# Altium footprint library IntegratedCircuit.PcbLib: 22 footprints (part 1 of 2)
Each footprint in its own frame and in the unit in brackets; x right, y up, seen from the top. Pads: shape width x height; smd on the part's side, far side on the other; paste and mask are expansions set on the pad; w line width, h text height; cw(c..) or ccw(c..) is an arc to the next point about the centre after c.
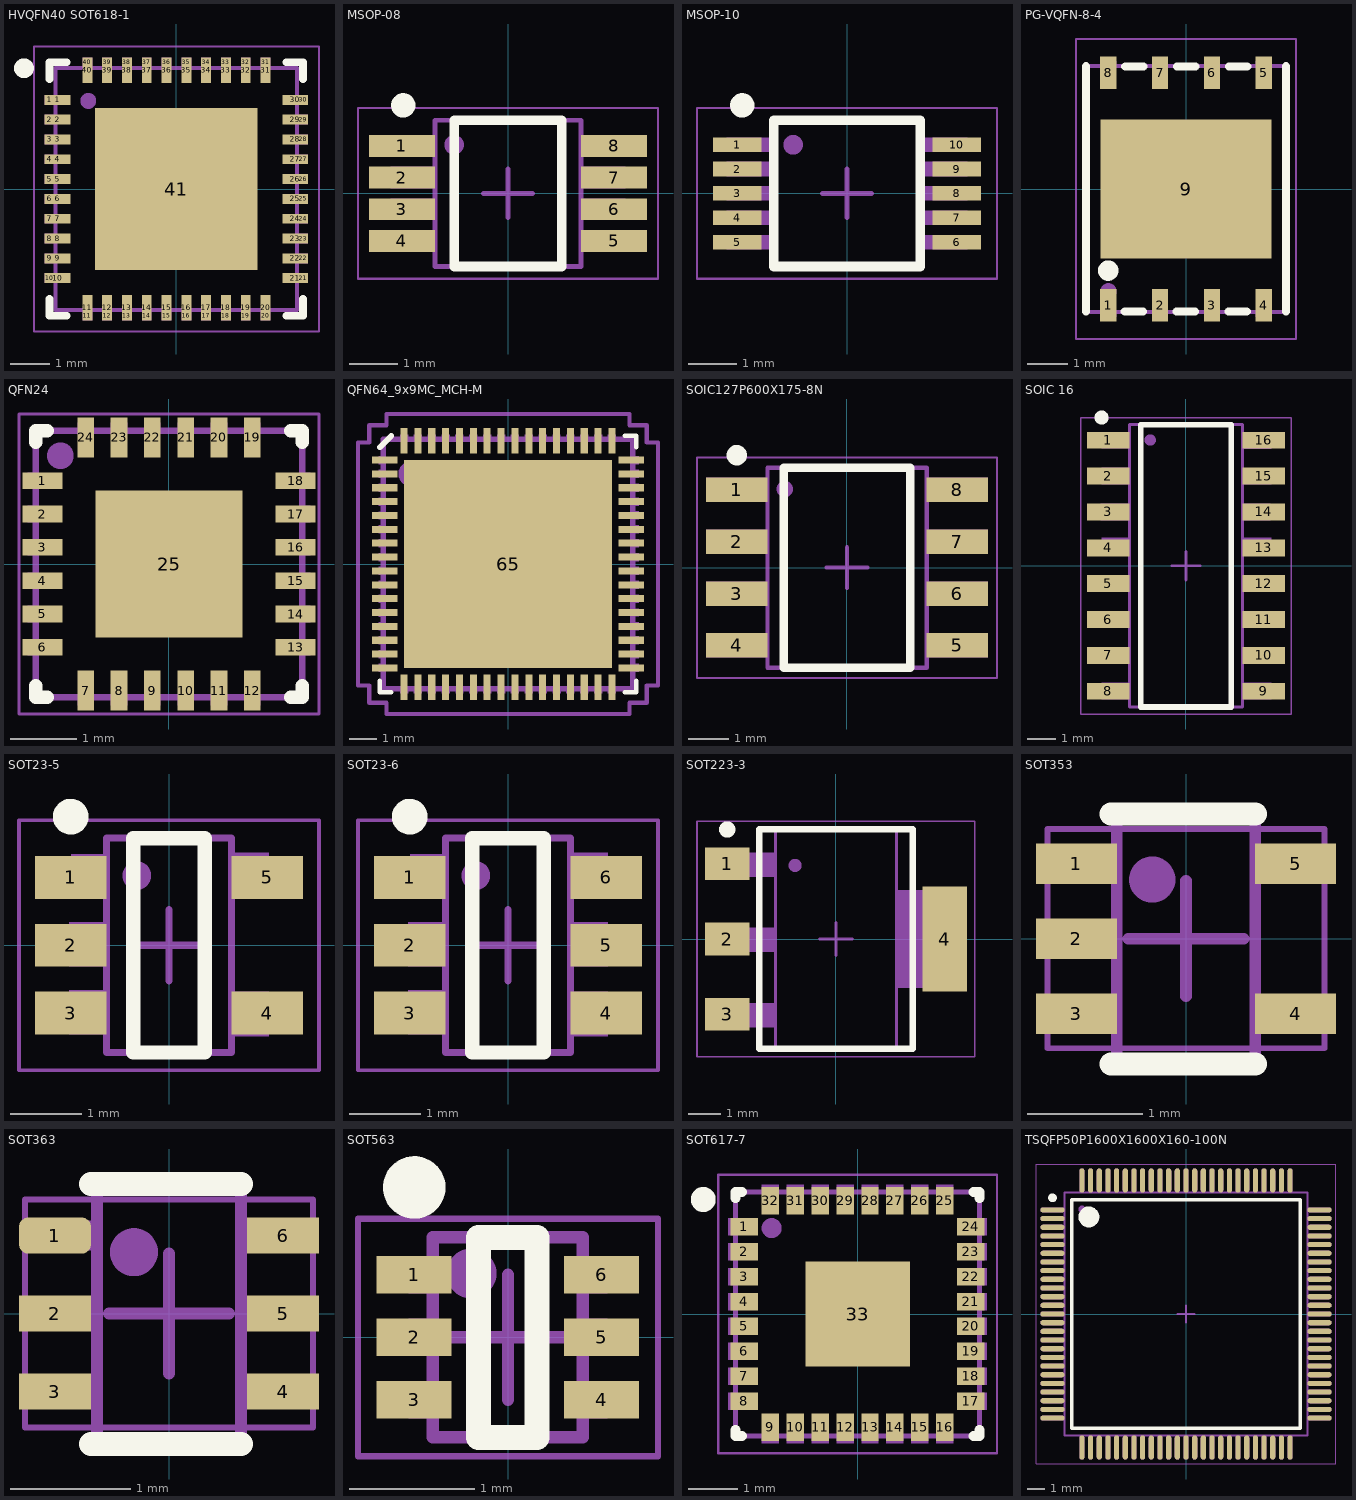
[diagram p0: the footprints below, top view; thin cyan lines are the x and y axes]

## HVQFN40 SOT618-1 [mm] "QFN, 40-Leads, Body 6.00x6.00mm, Pitch 0.50mm, Thermal Pad 4.10x4.10mm, IPC Medium Density"
height 1
pads (81):
  rect 0.25x0.25 on Mech13: 1(-3.2,2.25) 2(-3.2,1.75) 3(-3.2,1.25) 4(-3.2,0.75) 5(-3.2,0.25) 6(-3.2,-0.25) 7(-3.2,-0.75) 8(-3.2,-1.25) 9(-3.2,-1.75) 10(-3.2,-2.25) 11(-2.25,-3.2) 12(-1.75,-3.2) 13(-1.25,-3.2) 14(-0.75,-3.2) 15(-0.25,-3.2) 16(0.25,-3.2) 17(0.75,-3.2) 18(1.25,-3.2) 19(1.75,-3.2) 20(2.25,-3.2) 21(3.2,-2.25) 22(3.2,-1.75) 23(3.2,-1.25) 24(3.2,-0.75) 25(3.2,-0.25) 26(3.2,0.25) 27(3.2,0.75) 28(3.2,1.25) 29(3.2,1.75) 30(3.2,2.25) 31(2.25,3.2) 32(1.75,3.2) 33(1.25,3.2) 34(0.75,3.2) 35(0.25,3.2) 36(-0.25,3.2) 37(-0.75,3.2) 38(-1.25,3.2) 39(-1.75,3.2) 40(-2.25,3.2)
  rect 0.65x0.25 smd: 1(-3,2.25) 2(-3,1.75) 3(-3,1.25) 4(-3,0.75) 5(-3,0.25) 6(-3,-0.25) 7(-3,-0.75) 8(-3,-1.25) 9(-3,-1.75) 10(-3,-2.25) 21(3,-2.25) 22(3,-1.75) 23(3,-1.25) 24(3,-0.75) 25(3,-0.25) 26(3,0.25) 27(3,0.75) 28(3,1.25) 29(3,1.75) 30(3,2.25)
  rect 0.25x0.65 smd: 11(-2.25,-3) 12(-1.75,-3) 13(-1.25,-3) 14(-0.75,-3) 15(-0.25,-3) 16(0.25,-3) 17(0.75,-3) 18(1.25,-3) 19(1.75,-3) 20(2.25,-3) 31(2.25,3) 32(1.75,3) 33(1.25,3) 34(0.75,3) 35(0.25,3) 36(-0.25,3) 37(-0.75,3) 38(-1.25,3) 39(-1.75,3) 40(-2.25,3)
  rect 4.1x4.1 smd: 41(0,0)
Top Overlay:
  circle w0.25: c-3.85,3.05 r0.125
  lines w0.2: -3.2,-2.775 -3.2,-3.2 -2.775,-3.2 ; -3.2,2.775 -3.2,3.2 -2.775,3.2 ; 2.775,-3.2 3.2,-3.2 3.2,-2.775 ; 2.775,3.2 3.2,3.2 3.2,2.775
Mechanical 13:
  circle w0.3: c-2.225,2.225 r0.05
  lines w0.1: -3.05,-3.05 -3.05,3.05 3.05,3.05 3.05,-3.05 -3.05,-3.05
  text ".Designator" at -3.749,-0.25 h0.75
Mechanical 15:
  lines w0.05: -3.6,-3.6 -3.6,3.6 3.6,3.6 3.6,-3.6 -3.6,-3.6
  lines w0.1: -0.5,0 0.5,0 ; 0,-0.5 0,0.5
3D body "QFN-40.STEP": height 1.06, standoff 0.01, extent -3.075,-3.075 3.075,3.075

## MSOP-08 [mm] "TSOP, 8-Leads, Body 2.95x2.95mm, Pitch 0.65mm, IPC Medium Density"
height 1.1
pads (8):
  rect 1.35x0.45 smd: 1(-2.175,0.975) 2(-2.175,0.325) 3(-2.175,-0.325) 4(-2.175,-0.975) 5(2.175,-0.975) 6(2.175,-0.325) 7(2.175,0.325) 8(2.175,0.975)
Top Overlay:
  circle w0.25: c-2.147,1.805 r0.125
  lines w0.2: -1.1,-1.5 1.1,-1.5 1.1,1.5 -1.1,1.5 -1.1,-1.5
Mechanical 13:
  circle w0.3: c-1.105,0.996 r0.05
  region: 2.405,-0.75 1.5,-0.75 1.5,-1.199 2.405,-1.199
  region: 2.405,-0.1 1.5,-0.1 1.5,-0.549 2.405,-0.549
  region: 2.405,0.55 1.5,0.55 1.5,0.101 2.405,0.101
  region: 2.405,1.2 1.5,1.2 1.5,0.751 2.405,0.751
  rectangle: -2.405,-1.2 -1.5,-0.751
  rectangle: -2.405,-0.55 -1.5,-0.101
  rectangle: -2.405,0.1 -1.5,0.549
  rectangle: -2.405,0.75 -1.5,1.199
  lines w0.1: -1.5,-1.5 1.5,-1.5 1.5,1.5 -1.5,1.5 -1.5,-1.5
  text ".Designator" at 0.25,-3.749 h0.75
Mechanical 15:
  lines w0.05: -3.075,-1.75 3.075,-1.75 3.075,1.75 -3.075,1.75 -3.075,-1.75
  lines w0.1: -0.5,0 0.5,0 ; 0,-0.5 0,0.5
3D body "TSOP65P480X110-8N.step": height 1.1, standoff 0, extent -2.4,-1.5 2.4,1.5

## MSOP-10 [mm] "TSOP, 8-Leads, Body 2.95x2.95mm, Pitch 0.65mm, IPC Medium Density"
height 1.1
pads (10):
  rect 1x0.3 smd: 1(-2.25,1) 2(-2.25,0.5) 3(-2.25,0) 4(-2.25,-0.5) 5(-2.25,-1) 6(2.25,-1) 7(2.25,-0.5) 8(2.25,0) 9(2.25,0.5) 10(2.25,1)
Top Overlay:
  circle w0.25: c-2.147,1.805 r0.125
  lines w0.2: -1.5,-1.5 1.5,-1.5 1.5,1.5 -1.5,1.5 -1.5,-1.5
Mechanical 13:
  circle w0.3: c-1.105,0.996 r0.05
  region: 2.466,-0.85 1.5,-0.85 1.5,-1.15 2.466,-1.15
  region: 2.466,-0.35 1.5,-0.35 1.5,-0.65 2.466,-0.65
  region: 2.466,0.15 1.5,0.15 1.5,-0.15 2.466,-0.15
  region: 2.466,0.65 1.5,0.65 1.5,0.35 2.466,0.35
  region: 2.466,1.15 1.5,1.15 1.5,0.85 2.466,0.85
  rectangle: -2.466,-1.15 -1.5,-0.85
  rectangle: -2.466,-0.65 -1.5,-0.35
  rectangle: -2.466,-0.15 -1.5,0.15
  rectangle: -2.466,0.35 -1.5,0.65
  rectangle: -2.466,0.85 -1.5,1.15
  lines w0.1: -1.5,-1.5 1.5,-1.5 1.5,1.5 -1.5,1.5 -1.5,-1.5
  text ".Designator" at 0.25,-3.749 h0.75
Mechanical 15:
  lines w0.05: -3.075,-1.75 3.075,-1.75 3.075,1.75 -3.075,1.75 -3.075,-1.75
  lines w0.1: -0.5,0 0.5,0 ; 0,-0.5 0,0.5
3D body "MSOP-10.step": height 1, standoff 0, extent -2.464,-1.5 2.464,1.5

## PG-VQFN-8-4 [mm] "SOIC, 8-Leads, Body 4.90x3.90mm, Pitch 1.27mm, IPC Medium Density"
height 1.75
pads (9):
  rect 0.4x0.8 smd: 1(-1.905,-2.85) 2(-0.635,-2.85) 3(0.635,-2.85) 4(1.905,-2.85) 5(1.905,2.85) 6(0.635,2.85) 7(-0.635,2.85) 8(-1.905,2.85)
  rect 4.2x3.4 smd: 9(0,-0.001)
Top Overlay:
  circle w0.25: c-1.905,-2 r0.125
  lines w0.2: -2.45,-3.002 -2.45,3.008 ; -1.5,-3 -1.05,-3 ; -1.49,3 -1.04,3 ; -0.23,-3 0.22,-3 ; -0.22,3 0.23,3 ; 1.04,-3 1.49,-3 ; 1.05,3 1.5,3 ; 2.45,-3.002 2.45,3.008
Mechanical 13:
  circle w0.3: c-1.901,-2.509 r0.05
  rectangle: -2.105,2.991 -1.707,3.139
  rectangle: -0.835,2.991 -0.437,3.139
  rectangle: 0.435,2.991 0.833,3.139
  rectangle: 1.705,2.991 2.103,3.139
  region: 2.104,-2.991 1.706,-2.991 1.706,-3.139 2.104,-3.139
  region: 0.834,-2.991 0.436,-2.991 0.436,-3.139 0.834,-3.139
  region: -0.436,-2.991 -0.834,-2.991 -0.834,-3.139 -0.436,-3.139
  region: -1.706,-2.991 -2.104,-2.991 -2.104,-3.139 -1.706,-3.139
  lines w0.1: -2.449,-3.01 -2.449,3.009 2.451,3.009 2.451,-3.01 -2.449,-3.01
  text ".Designator" at -3.749,-0.251 h0.75
Mechanical 15:
  lines w0.05: -2.7,-3.675 -2.7,3.675 2.7,3.675 2.7,-3.675 -2.7,-3.675
  lines w0.1: -0.5,0 0.5,0 ; 0,-0.5 0,0.5
3D body "esim_qfn8-5x6 v0.step": height 0.81, standoff 0, extent -2.5,-3.01 2.5,3.01

## QFN24 [mm]
height 1
pads (49):
  rect 0.6x0.25 smd: 1(-1.9,1.25) 2(-1.9,0.75) 3(-1.9,0.25) 4(-1.9,-0.25) 5(-1.9,-0.75) 6(-1.9,-1.25) 13(1.9,-1.25) 14(1.9,-0.75) 15(1.9,-0.25) 16(1.9,0.25) 17(1.9,0.75) 18(1.9,1.25)
  rect 0.25x0.6 smd: 7(-1.25,-1.9) 8(-0.75,-1.9) 9(-0.25,-1.9) 10(0.25,-1.9) 11(0.75,-1.9) 12(1.25,-1.9) 19(1.25,1.9) 20(0.75,1.9) 21(0.25,1.9) 22(-0.25,1.9) 23(-0.75,1.9) 24(-1.25,1.9)
  rect 2.2x2.2 smd: 25(0,0)
  rect 0.15x0.25 on Mech13: ""(-2.05,-1.25) ""(-2.05,-0.75) ""(-2.05,-0.25) ""(-2.05,0.25) ""(-2.05,0.75) ""(-2.05,1.25) ""(2.05,-1.25) ""(2.05,-0.75) ""(2.05,-0.25) ""(2.05,0.25) ""(2.05,0.75) ""(2.05,1.25)
  rect 0.25x0.15 on Mech13: ""(-1.25,2.05) ""(-1.25,-2.05) ""(-0.75,-2.05) ""(-0.75,2.05) ""(-0.25,2.05) ""(-0.25,-2.05) ""(0.25,2.05) ""(0.25,-2.05) ""(0.75,-2.05) ""(0.75,2.05) ""(1.25,2.05) ""(1.25,-2.05)
Top Overlay:
  lines w0.2: -2,-1.825 -2,-2 -1.825,-2 ; -2,1.825 -2,2 -1.825,2 ; 1.825,-2 2,-2 2,-1.825 ; 1.825,2 2,2 2,1.825
Mechanical 13:
  circle w0.3: c-1.63,1.624 r0.05
  lines w0.1: -2,-2 2,-2 2,2 -2,2 -2,-2
  text ".Designator" at -3.749,-0.25 h0.75
Mechanical 15:
  lines w0.05: -2.25,-2.25 2.25,-2.25 2.25,2.25 -2.25,2.25 -2.25,-2.25
  lines w0.1: -0.5,0 0.5,0 ; 0,-0.5 0,0.5
3D body "QFN24.step": height 0.9, standoff 0, extent -2.005,-2.005 2.005,2.005

## QFN64_9x9MC_MCH-M [mil]
pads (65):
  rect 36x10 smd paste+0 mask+0: 1(-175,147.64) 2(-175,127.95) 3(-175,108.27) 4(-175,88.58) 5(-175,68.9) 6(-175,49.21) 7(-175,29.53) 8(-175,9.84) 9(-175,-9.84) 10(-175,-29.53) 11(-175,-49.21) 12(-175,-68.9) 13(-175,-88.58) 14(-175,-108.27) 15(-175,-127.95) 16(-175,-147.64) 33(175,-147.64) 34(175,-127.95) 35(175,-108.27) 36(175,-88.58) 37(175,-68.9) 38(175,-49.21) 39(175,-29.53) 40(175,-9.84) 41(175,9.84) 42(175,29.53) 43(175,49.21) 44(175,68.9) 45(175,88.58) 46(175,108.27) 47(175,127.95) 48(175,147.64)
  rect 10x36 smd paste+0 mask+0: 17(-147.64,-175) 18(-127.95,-175) 19(-108.27,-175) 20(-88.58,-175) 21(-68.9,-175) 22(-49.21,-175) 23(-29.53,-175) 24(-9.84,-175) 25(9.84,-175) 26(29.53,-175) 27(49.21,-175) 28(68.9,-175) 29(88.58,-175) 30(108.27,-175) 31(127.95,-175) 32(147.64,-175) 49(147.64,175) 50(127.95,175) 51(108.27,175) 52(88.58,175) 53(68.9,175) 54(49.21,175) 55(29.53,175) 56(9.84,175) 57(-9.84,175) 58(-29.53,175) 59(-49.21,175) 60(-68.9,175) 61(-88.58,175) 62(-108.27,175) 63(-127.95,175) 64(-147.64,175)
  rect 295x295 smd paste-147 mask+0: 65(0,0)
Top Overlay:
  lines w6: -182,-165.74 -182,-182 -165.74,-182 ; 165.74,-182 182,-182 182,-165.74 ; 165.74,182 182,182 182,165.74
  lines w7.87: -182,165.74 -165.74,182
Top Paste:
  region: 143.56,-92.44 92.44,-92.44 92.44,-143.56 143.56,-143.56
  region: 143.56,-33.44 92.44,-33.44 92.44,-84.56 143.56,-84.56
  region: 143.56,25.56 92.44,25.56 92.44,-25.56 143.56,-25.56
  region: 143.56,84.56 92.44,84.56 92.44,33.44 143.56,33.44
  region: 143.56,143.56 92.44,143.56 92.44,92.44 143.56,92.44
  region: 84.56,-92.44 33.44,-92.44 33.44,-143.56 84.56,-143.56
  region: 84.56,-33.44 33.44,-33.44 33.44,-84.56 84.56,-84.56
  region: 84.56,25.56 33.44,25.56 33.44,-25.56 84.56,-25.56
  region: 84.56,84.56 33.44,84.56 33.44,33.44 84.56,33.44
  region: 84.56,143.56 33.44,143.56 33.44,92.44 84.56,92.44
  region: 25.56,-92.44 -25.56,-92.44 -25.56,-143.56 25.56,-143.56
  region: 25.56,-33.44 -25.56,-33.44 -25.56,-84.56 25.56,-84.56
  region: 25.56,25.56 -25.56,25.56 -25.56,-25.56 25.56,-25.56
  region: 25.56,84.56 -25.56,84.56 -25.56,33.44 25.56,33.44
  region: 25.56,143.56 -25.56,143.56 -25.56,92.44 25.56,92.44
  region: -33.44,-92.44 -84.56,-92.44 -84.56,-143.56 -33.44,-143.56
  region: -33.44,-33.44 -84.56,-33.44 -84.56,-84.56 -33.44,-84.56
  region: -33.44,25.56 -84.56,25.56 -84.56,-25.56 -33.44,-25.56
  region: -33.44,84.56 -84.56,84.56 -84.56,33.44 -33.44,33.44
  region: -33.44,143.56 -84.56,143.56 -84.56,92.44 -33.44,92.44
  region: -92.44,-92.44 -143.56,-92.44 -143.56,-143.56 -92.44,-143.56
  region: -92.44,-33.44 -143.56,-33.44 -143.56,-84.56 -92.44,-84.56
  region: -92.44,25.56 -143.56,25.56 -143.56,-25.56 -92.44,-25.56
  region: -92.44,84.56 -143.56,84.56 -143.56,33.44 -92.44,33.44
  region: -92.44,143.56 -143.56,143.56 -143.56,92.44 -92.44,92.44
Mechanical 13:
  drawing of 201 lines, arcs and shapes, not listed
  text ".Designator" at -196.79,-13.12 h39.37
Mechanical 15:
  lines w6: -213,-172.64 -213,172.64 -197,172.64 -197,197 -172.64,197 -172.64,213 172.64,213 172.64,197 197,197 197,172.64 213,172.64 213,-172.64 197,-172.64 197,-197 172.64,-197 172.64,-213 -172.64,-213 -172.64,-197 -197,-197 -197,-172.64 -213,-172.64
3D body "QFN64_9x9MC_MCH.step": height 39.09, standoff 0, extent -177.01,-177.01 177.01,177.01

## SOIC127P600X175-8N [mm] "SOIC, 8-Leads, Body 4.90x3.90mm, Pitch 1.27mm, IPC Medium Density"
height 1.75
pads (16):
  rect 1.5x0.6 smd: 1(-2.7,1.905) 2(-2.7,0.635) 3(-2.7,-0.635) 4(-2.7,-1.905) 5(2.7,-1.905) 6(2.7,-0.635) 7(2.7,0.635) 8(2.7,1.905)
  rect 1.5x0.6 on Mech13: ""(-2.7,-1.905) ""(-2.7,-0.635) ""(-2.7,0.635) ""(-2.7,1.905) ""(2.7,-1.905) ""(2.7,-0.635) ""(2.7,0.635) ""(2.7,1.905)
Top Overlay:
  circle w0.25: c-2.7,2.755 r0.125
  lines w0.2: -1.55,-2.45 -1.55,2.45 1.55,2.45 1.55,-2.45 -1.55,-2.45
Mechanical 13:
  circle w0.3: c-1.525,1.925 r0.05
  lines w0.1: -1.947,-2.451 1.953,-2.451 1.953,2.449 -1.947,2.449 -1.947,-2.451
  text ".Designator" at 0.25,-3.749 h0.75
Mechanical 15:
  lines w0.05: -3.675,-2.7 -3.675,2.7 3.675,2.7 3.675,-2.7 -3.675,-2.7
  lines w0.1: -0.5,0 0.5,0 ; 0,-0.5 0,0.5
3D body "SOIC127P600X175-8N.step": height 1.75, standoff 0, extent -3,-2.45 3,2.45

## SOIC 16 [mm] "SOIC, 16-Leads, Body 9.90x3.90mm, Pitch 1.27mm, IPC Medium Density"
height 1.75
pads (16):
  rect 1.5x0.6 smd: 1(-2.75,4.445) 2(-2.75,3.175) 3(-2.75,1.905) 4(-2.75,0.635) 5(-2.75,-0.635) 6(-2.75,-1.905) 7(-2.75,-3.175) 8(-2.75,-4.445) 9(2.75,-4.445) 10(2.75,-3.175) 11(2.75,-1.905) 12(2.75,-0.635) 13(2.75,0.635) 14(2.75,1.905) 15(2.75,3.175) 16(2.75,4.445)
Top Overlay:
  circle w0.25: c-2.99,5.25 r0.125
  lines w0.2: -1.6,-5 -1.6,5 1.6,5 1.6,-5 -1.6,-5
Mechanical 13:
  circle w0.3: c-1.266,4.453 r0.05
  rectangle: -2.996,4.145 -2,4.745
  rectangle: -2.996,2.873 -2,3.473
  rectangle: -3.021,1.609 -2.026,2.209
  rectangle: -3.031,-0.931 -2.035,-0.331
  rectangle: -2.996,0.399 -2,0.999
  rectangle: -3.009,-2.201 -2.013,-1.601
  rectangle: -2.996,-3.475 -2,-2.875
  rectangle: -2.996,-4.735 -2,-4.135
  rectangle: 2.031,4.142 3.027,4.742
  rectangle: 2.031,2.869 3.027,3.469
  rectangle: 2.005,1.606 3.001,2.206
  rectangle: 1.996,-0.934 2.991,-0.334
  rectangle: 2.031,0.396 3.027,0.996
  rectangle: 2.018,-2.204 3.014,-1.604
  rectangle: 2.031,-3.478 3.027,-2.878
  rectangle: 2.031,-4.738 3.027,-4.138
  lines w0.1: -2,-5 -2,5 2,5 2,-5 -2,-5
  text ".Designator" at 0.178,-2.563 h0.5
Mechanical 15:
  lines w0.05: -3.725,-5.25 -3.725,5.25 3.725,5.25 3.725,-5.25 -3.725,-5.25
  lines w0.1: -0.5,0 0.5,0 ; 0,-0.5 0,0.5
3D body "SO16-viper26hd.step": height 1.7, standoff 0, extent -3,-5.1 3,5.1

## SOT23-5 [mm] "SOT23, 6-Leads, Body 2.73x2.80mm, Pitch 0.95mm, IPC Medium Density"
height 1.45
pads (5):
  rect 1x0.6 smd: 1(-1.375,0.95) 2(-1.375,0) 3(-1.375,-0.95) 4(1.375,-0.95) 5(1.375,0.95)
Top Overlay:
  circle w0.25: c-1.375,1.8 r0.125
  lines w0.2: -0.5,-1.5 0.5,-1.5 0.5,1.5 -0.5,1.5 -0.5,-1.5
Mechanical 13:
  circle w0.3: c-0.45,0.975 r0.05
  rectangle: -1.375,0.65 -0.875,1.275
  rectangle: -1.4,-0.3 -0.9,0.325
  rectangle: -1.4,-1.25 -0.9,-0.625
  rectangle: 0.9,0.675 1.4,1.3
  rectangle: 0.9,-1.275 1.4,-0.65
  lines w0.1: -0.875,-1.5 -0.875,1.5 0.875,1.5 0.875,-1.5 -0.875,-1.5
  text ".Designator" at 0.217,-3.249 h0.65
Mechanical 15:
  lines w0.05: -2.1,-1.75 -2.1,1.75 2.1,1.75 2.1,-1.75 -2.1,-1.75
  lines w0.1: -0.5,0 0.5,0 ; 0,-0.5 0,0.5
3D body "ap2112k-3_3trg1.stp": height 1.11, standoff -0.04, extent -1.4,-1.5 1.4,1.5

## SOT23-6 [mm] "SOT23, 6-Leads, Body 2.73x2.80mm, Pitch 0.95mm, IPC Medium Density"
height 1.45
pads (6):
  rect 1x0.6 smd: 1(-1.375,0.95) 2(-1.375,0) 3(-1.375,-0.95) 4(1.375,-0.95) 5(1.375,0) 6(1.375,0.95)
Top Overlay:
  circle w0.25: c-1.375,1.8 r0.125
  lines w0.2: -0.5,-1.5 0.5,-1.5 0.5,1.5 -0.5,1.5 -0.5,-1.5
Mechanical 13:
  circle w0.3: c-0.45,0.975 r0.05
  rectangle: -1.375,0.65 -0.875,1.275
  rectangle: -1.4,-0.3 -0.9,0.325
  rectangle: -1.4,-1.25 -0.9,-0.625
  rectangle: 0.9,0.675 1.4,1.3
  rectangle: 0.9,-0.3 1.4,0.325
  rectangle: 0.9,-1.275 1.4,-0.65
  lines w0.1: -0.875,-1.5 -0.875,1.5 0.875,1.5 0.875,-1.5 -0.875,-1.5
  text ".Designator" at 0.217,-3.249 h0.65
Mechanical 15:
  lines w0.05: -2.1,-1.75 -2.1,1.75 2.1,1.75 2.1,-1.75 -2.1,-1.75
  lines w0.1: -0.5,0 0.5,0 ; 0,-0.5 0,0.5
3D body "SOT23-6-2.step": height 1.45, standoff 0, extent -1.4,-1.45 1.4,1.45

## SOT223-3 [mm] "SOT223, 4-Leads, Body 6.50x7.00mm (avg), Pitch 2.30mm, IPC Medium Density"
height 1.8
pads (4):
  rect 1.35x1 smd: 1(-3.325,2.3) 2(-3.325,0) 3(-3.325,-2.3)
  rect 1.35x3.2 smd: 4(3.325,0)
Top Overlay:
  circle w0.25: c-3.325,3.35 r0.125
  lines w0.2: -2.35,-3.35 2.35,-3.35 2.35,3.35 -2.35,3.35 -2.35,-3.35
Mechanical 13:
  circle w0.3: c-1.25,2.25 r0.05
  rectangle: -3.5,-2.7 -1.85,-1.95
  rectangle: -3.5,-0.4 -1.85,0.35
  rectangle: -3.5,1.9 -1.85,2.65
  region: 3.5,1.5 1.849,1.5 1.849,-1.5 3.5,-1.5
  lines w0.1: -1.85,-3.35 1.85,-3.35 1.85,3.35 -1.85,3.35 -1.85,-3.35
  text ".Designator" at 0.217,-3.279 h0.65
Mechanical 15:
  lines w0.05: -4.25,-3.6 4.25,-3.6 4.25,3.6 -4.25,3.6 -4.25,-3.6
  lines w0.1: -0.5,0 0.5,0 ; 0,-0.5 0,0.5
3D body "SOT-223.stp": height 1.61, standoff -0.04, extent -3.5,-3.25 3.5,3.25

## SOT353 [mm] "SOTFL, 6-Leads, Body 1.55x1.58mm, Pitch 0.50mm, IPC Medium Density"
height 0.6
pads (5):
  rect 0.7x0.35 smd: 1(-0.95,0.65) 2(-0.95,0) 3(-0.95,-0.65) 4(0.95,-0.65) 5(0.95,0.65)
Top Overlay:
  lines w0.2: -0.65,-1.086 0.6,-1.086 ; -0.65,1.079 0.6,1.079
Mechanical 13:
  circle w0.3: c-0.292,0.511 r0.05
  region: 1.05,-0.525 0.6,-0.525 0.6,-0.775 1.05,-0.775
  region: 1.05,0.775 0.6,0.775 0.6,0.525 1.05,0.525
  rectangle: -1.05,0.525 -0.6,0.775
  rectangle: -1.05,-0.125 -0.6,0.125
  rectangle: -1.05,-0.775 -0.6,-0.525
  lines w0.1: -0.6,-1.086 -0.6,1.079 0.6,1.079 0.6,-1.086 -0.6,-1.086
  text ".Designator" at 0.333,-1.999 h0.4
Mechanical 15:
  lines w0.05: -1.2,-0.95 1.2,-0.95 1.2,0.95 -1.2,0.95 -1.2,-0.95
  lines w0.1: -0.5,0 0.5,0 ; 0,-0.5 0,0.5
3D body "SOT353.step": height 1.1, standoff 0, extent -1.2,-1.1 1.2,1.1

## SOT363 [mm] "SOTFL, 6-Leads, Body 1.55x1.58mm, Pitch 0.50mm, IPC Medium Density"
height 0.6
pads (6):
  rrect50% 0.6x0.3 smd: 1(-0.95,0.65)
  rect 0.6x0.3 smd: 2(-0.95,0) 3(-0.95,-0.65) 4(0.95,-0.65) 5(0.95,0) 6(0.95,0.65)
Top Overlay:
  lines w0.2: -0.65,-1.086 0.6,-1.086 ; -0.65,1.079 0.6,1.079
Mechanical 13:
  circle w0.3: c-0.292,0.511 r0.05
  region: 1.05,-0.525 0.6,-0.525 0.6,-0.775 1.05,-0.775
  region: 1.05,0.125 0.6,0.125 0.6,-0.125 1.05,-0.125
  region: 1.05,0.775 0.6,0.775 0.6,0.525 1.05,0.525
  rectangle: -1.05,0.525 -0.6,0.775
  rectangle: -1.05,-0.125 -0.6,0.125
  rectangle: -1.05,-0.775 -0.6,-0.525
  lines w0.1: -0.6,-1.086 -0.6,1.079 0.6,1.079 0.6,-1.086 -0.6,-1.086
  text ".Designator" at 0.333,-1.999 h0.4
Mechanical 15:
  lines w0.05: -1.2,-0.95 1.2,-0.95 1.2,0.95 -1.2,0.95 -1.2,-0.95
  lines w0.1: -0.5,0 0.5,0 ; 0,-0.5 0,0.5
3D body "SOT363.stp": height 1.1, standoff 0.01, extent -1.05,-1.075 1.05,1.075

## SOT563 [mm] "SOTFL, 6-Leads, Body 1.55x1.58mm, Pitch 0.50mm, IPC Medium Density"
height 0.6
pads (6):
  rect 0.6x0.3 smd: 1(-0.75,0.5) 2(-0.75,0) 3(-0.75,-0.5) 4(0.75,-0.5) 5(0.75,0) 6(0.75,0.5)
Top Overlay:
  circle w0.25: c-0.75,1.2 r0.125
  lines w0.2: -0.235,-0.8 -0.235,0.8 0.23,0.8 0.23,-0.8 -0.235,-0.8
Mechanical 13:
  circle w0.3: c-0.292,0.511 r0.05
  rectangle: -0.796,0.35 -0.6,0.65
  rectangle: -0.796,-0.15 -0.6,0.15
  rectangle: -0.796,-0.65 -0.6,-0.35
  region: 0.796,0.65 0.6,0.65 0.6,0.35 0.796,0.35
  region: 0.796,0.15 0.6,0.15 0.6,-0.15 0.796,-0.15
  region: 0.796,-0.35 0.6,-0.35 0.6,-0.65 0.796,-0.65
  lines w0.1: -0.6,-0.8 0.6,-0.8 0.6,0.8 -0.6,0.8 -0.6,-0.8
  text ".Designator" at 0.333,-1.999 h0.4
Mechanical 15:
  lines w0.05: -1.2,-0.95 1.2,-0.95 1.2,0.95 -1.2,0.95 -1.2,-0.95
  lines w0.1: -0.5,0 0.5,0 ; 0,-0.5 0,0.5
3D body "SOTFL50P158X60-6N.step": height 0.6, standoff 0, extent -0.787,-0.798 0.787,0.798

## SOT617-7 [mm] "PQFN, 32-Leads, Body 5.00x5.00mm, Pitch 0.50mm, Thermal Pad 2.10x2.10mm, IPC Medium Density"
height 1
pads (65):
  rect 0.55x0.35 smd: 1(-2.275,1.75) 2(-2.275,1.25) 3(-2.275,0.75) 4(-2.275,0.25) 5(-2.275,-0.25) 6(-2.275,-0.75) 7(-2.275,-1.25) 8(-2.275,-1.75) 17(2.275,-1.75) 18(2.275,-1.25) 19(2.275,-0.75) 20(2.275,-0.25) 21(2.275,0.25) 22(2.275,0.75) 23(2.275,1.25) 24(2.275,1.75)
  rect 0.35x0.55 smd: 9(-1.75,-2.275) 10(-1.25,-2.275) 11(-0.75,-2.275) 12(-0.25,-2.275) 13(0.25,-2.275) 14(0.75,-2.275) 15(1.25,-2.275) 16(1.75,-2.275) 25(1.75,2.275) 26(1.25,2.275) 27(0.75,2.275) 28(0.25,2.275) 29(-0.25,2.275) 30(-0.75,2.275) 31(-1.25,2.275) 32(-1.75,2.275)
  rect 2.1x2.1 smd: 33(0,0)
  rect 0.2x0.35 on Mech13: ""(-2.5,-1.75) ""(-2.5,-1.25) ""(-2.5,-0.75) ""(-2.5,-0.25) ""(-2.5,0.25) ""(-2.5,0.75) ""(-2.5,1.25) ""(-2.5,1.75) ""(2.5,-1.75) ""(2.5,-1.25) ""(2.5,-0.75) ""(2.5,-0.25) ""(2.5,0.25) ""(2.5,0.75) ""(2.5,1.25) ""(2.5,1.75)
  rect 0.35x0.2 on Mech13: ""(-1.75,-2.5) ""(-1.75,2.5) ""(-1.25,-2.5) ""(-1.25,2.5) ""(-0.75,-2.5) ""(-0.75,2.5) ""(-0.25,-2.5) ""(-0.25,2.5) ""(0.25,-2.5) ""(0.25,2.5) ""(0.75,-2.5) ""(0.75,2.5) ""(1.25,-2.5) ""(1.25,2.5) ""(1.75,-2.5) ""(1.75,2.5)
Top Overlay:
  circle w0.25: c-3.1,2.3 r0.125
  lines w0.2: -2.45,-2.325 -2.45,-2.45 -2.325,-2.45 ; -2.45,2.325 -2.45,2.45 -2.325,2.45 ; 2.325,-2.45 2.45,-2.45 2.45,-2.325 ; 2.325,2.45 2.45,2.45 2.45,2.325
Mechanical 13:
  circle w0.3: c-1.725,1.725 r0.05
  lines w0.1: -2.45,-2.45 2.45,-2.45 2.45,2.45 -2.45,2.45 -2.45,-2.45
  text ".Designator" at -3.749,-0.25 h0.75
Mechanical 15:
  lines w0.05: -2.8,-2.8 2.8,-2.8 2.8,2.8 -2.8,2.8 -2.8,-2.8
  lines w0.1: -0.5,0 0.5,0 ; 0,-0.5 0,0.5
3D body "PQFN50P500X500X100_HS-33N.step": height 1, standoff 0, extent -2.45,-2.45 2.45,2.45

## TSQFP50P1600X1600X160-100N [mm] "TSQFP, 100-Leads, Body 14.00x14.00mm, Pitch 0.50mm, IPC Medium Density"
height 1.6
pads (200):
  oval 1.4x0.3 smd: 1(-7.7,6) 2(-7.7,5.5) 3(-7.7,5) 4(-7.7,4.5) 5(-7.7,4) 6(-7.7,3.5) 7(-7.7,3) 8(-7.7,2.5) 9(-7.7,2) 10(-7.7,1.5) 11(-7.7,1) 12(-7.7,0.5) 13(-7.7,0) 14(-7.7,-0.5) 15(-7.7,-1) 16(-7.7,-1.5) 17(-7.7,-2) 18(-7.7,-2.5) 19(-7.7,-3) 20(-7.7,-3.5) 21(-7.7,-4) 22(-7.7,-4.5) 23(-7.7,-5) 24(-7.7,-5.5) 25(-7.7,-6) 51(7.7,-6) 52(7.7,-5.5) 53(7.7,-5) 54(7.7,-4.5) 55(7.7,-4) 56(7.7,-3.5) 57(7.7,-3) 58(7.7,-2.5) 59(7.7,-2) 60(7.7,-1.5) 61(7.7,-1) 62(7.7,-0.5) 63(7.7,0) 64(7.7,0.5) 65(7.7,1) 66(7.7,1.5) 67(7.7,2) 68(7.7,2.5) 69(7.7,3) 70(7.7,3.5) 71(7.7,4) 72(7.7,4.5) 73(7.7,5) 74(7.7,5.5) 75(7.7,6)
  oval 0.3x1.4 smd: 26(-6,-7.7) 27(-5.5,-7.7) 28(-5,-7.7) 29(-4.5,-7.7) 30(-4,-7.7) 31(-3.5,-7.7) 32(-3,-7.7) 33(-2.5,-7.7) 34(-2,-7.7) 35(-1.5,-7.7) 36(-1,-7.7) 37(-0.5,-7.7) 38(0,-7.7) 39(0.5,-7.7) 40(1,-7.7) 41(1.5,-7.7) 42(2,-7.7) 43(2.5,-7.7) 44(3,-7.7) 45(3.5,-7.7) 46(4,-7.7) 47(4.5,-7.7) 48(5,-7.7) 49(5.5,-7.7) 50(6,-7.7) 76(6,7.7) 77(5.5,7.7) 78(5,7.7) 79(4.5,7.7) 80(4,7.7) 81(3.5,7.7) 82(3,7.7) 83(2.5,7.7) 84(2,7.7) 85(1.5,7.7) 86(1,7.7) 87(0.5,7.7) 88(0,7.7) 89(-0.5,7.7) 90(-1,7.7) 91(-1.5,7.7) 92(-2,7.7) 93(-2.5,7.7) 94(-3,7.7) 95(-3.5,7.7) 96(-4,7.7) 97(-4.5,7.7) 98(-5,7.7) 99(-5.5,7.7) 100(-6,7.7)
  oval 1.4x0.3 on Mech13: ""(-7.7,-6) ""(-7.7,-5.5) ""(-7.7,-5) ""(-7.7,-4.5) ""(-7.7,-4) ""(-7.7,-3.5) ""(-7.7,-3) ""(-7.7,-2.5) ""(-7.7,-2) ""(-7.7,-1.5) ""(-7.7,-1) ""(-7.7,-0.5) ""(-7.7,0) ""(-7.7,0.5) ""(-7.7,1) ""(-7.7,1.5) ""(-7.7,2) ""(-7.7,2.5) ""(-7.7,3) ""(-7.7,3.5) ""(-7.7,4) ""(-7.7,4.5) ""(-7.7,5) ""(-7.7,5.5) ""(-7.7,6) ""(7.7,-6) ""(7.7,-5.5) ""(7.7,-5) ""(7.7,-4.5) ""(7.7,-4) ""(7.7,-3.5) ""(7.7,-3) ""(7.7,-2.5) ""(7.7,-2) ""(7.7,-1.5) ""(7.7,-1) ""(7.7,-0.5) ""(7.7,0) ""(7.7,0.5) ""(7.7,1) ""(7.7,1.5) ""(7.7,2) ""(7.7,2.5) ""(7.7,3) ""(7.7,3.5) ""(7.7,4) ""(7.7,4.5) ""(7.7,5) ""(7.7,5.5) ""(7.7,6)
  oval 0.3x1.4 on Mech13: ""(-6,-7.7) ""(-6,7.7) ""(-5.5,-7.7) ""(-5.5,7.7) ""(-5,-7.7) ""(-5,7.7) ""(-4.5,-7.7) ""(-4.5,7.7) ""(-4,-7.7) ""(-4,7.7) ""(-3.5,-7.7) ""(-3.5,7.7) ""(-3,-7.7) ""(-3,7.7) ""(-2.5,-7.7) ""(-2.5,7.7) ""(-2,-7.7) ""(-2,7.7) ""(-1.5,-7.7) ""(-1.5,7.7) ""(-1,-7.7) ""(-1,7.7) ""(-0.5,-7.7) ""(-0.5,7.7) ""(0,-7.7) ""(0,7.7) ""(0.5,-7.7) ""(0.5,7.7) ""(1,-7.7) ""(1,7.7) ""(1.5,-7.7) ""(1.5,7.7) ""(2,-7.7) ""(2,7.7) ""(2.5,-7.7) ""(2.5,7.7) ""(3,-7.7) ""(3,7.7) ""(3.5,-7.7) ""(3.5,7.7) ""(4,-7.7) ""(4,7.7) ""(4.5,-7.7) ""(4.5,7.7) ""(5,-7.7) ""(5,7.7) ""(5.5,-7.7) ""(5.5,7.7) ""(6,-7.7) ""(6,7.7)
Top Overlay:
  circle w0.6: c-5.6,5.6 r0.3
  circle w0.25: c-7.7,6.7 r0.125
  lines w0.2: -6.6,-6.6 6.6,-6.6 6.6,6.6 -6.6,6.6 -6.6,-6.6
Mechanical 13:
  circle w0.3: c-6,6.05 r0.05
  lines w0.1: -7,-7 7,-7 7,7 -7,7 -7,-7
  text ".Designator" at -3.749,-0.25 h0.75
Mechanical 15:
  lines w0.05: -8.65,-8.65 8.65,-8.65 8.65,8.65 -8.65,8.65 -8.65,-8.65
  lines w0.1: -0.5,0 0.5,0 ; 0,-0.5 0,0.5
3D body "TSQFP50P1600X1600X160-100N.step": height 1.6, standoff 0, extent -8,-8 8,8